# Altium schematic symbol library CrystalsSymbol.SchLib: 1 symbol
Pins are listed as number, name and electrical type; pins without a type are passive.

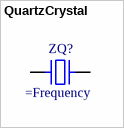
[diagram p0: symbol QuartzCrystal]

## QuartzCrystal
designator ZQ?
pins: 1, 2